# EAGLE library part FTDI_DEVICE (library LinnesLab-Connectors)
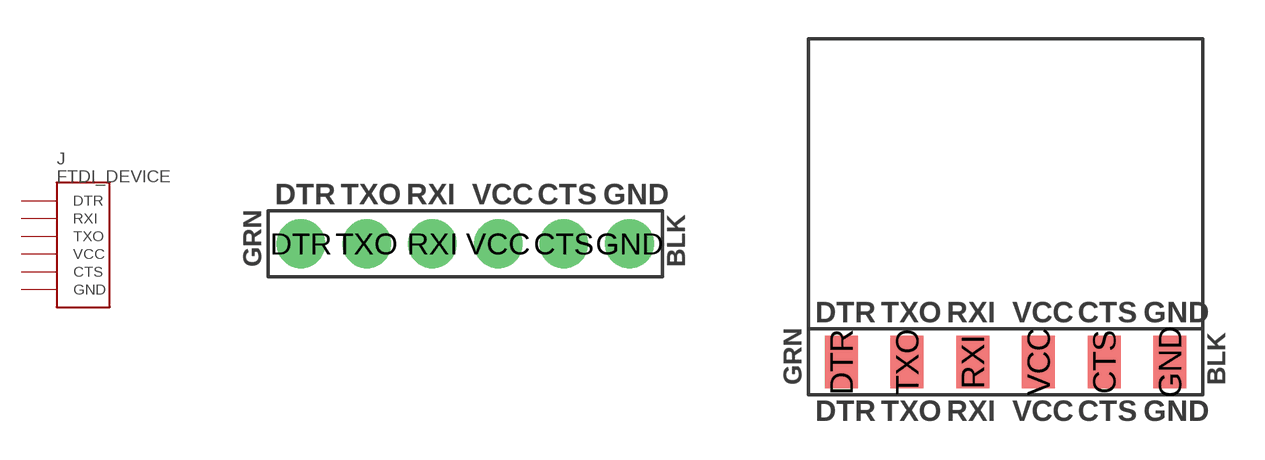
[diagram p10: symbol with the pads of FTDI_DEVICE; footprints FTDI_DEVICE, FTDI-SMD]

Designator prefix J

## FTDI_DEVICE  [FTDI_DEVICE]
CTS  CTS
DTR  DTR
GND  GND
RXI  TXO
TXO  RXI
VCC  VCC

## FTDI_DEVICESMD  [FTDI-SMD]
CTS  CTS
DTR  DTR
GND  GND
RXI  RXI
TXO  TXO
VCC  VCC

## Footprint FTDI_DEVICE (pad centres in mm)
drill 1.016 pad 1.88: CTS 3.81,0; DTR -6.35,0; GND 6.35,0; RXI -1.27,0; TXO -3.81,0; VCC 1.27,0

## Footprint FTDI-SMD (pad centres in mm)
smd 1.27 x 2.03: CTS 3.81,0; DTR -6.35,0; GND 6.35,0; RXI -1.27,0; TXO -3.81,0; VCC 1.27,0